# Altium footprint library TH Resistors.PcbLib: 5 footprints
Each footprint in its own frame and in the unit in brackets; x right, y up, seen from the top. Pads: shape width x height; smd on the part's side, far side on the other; paste and mask are expansions set on the pad; w line width, h text height; cw(c..) or ccw(c..) is an arc to the next point about the centre after c.
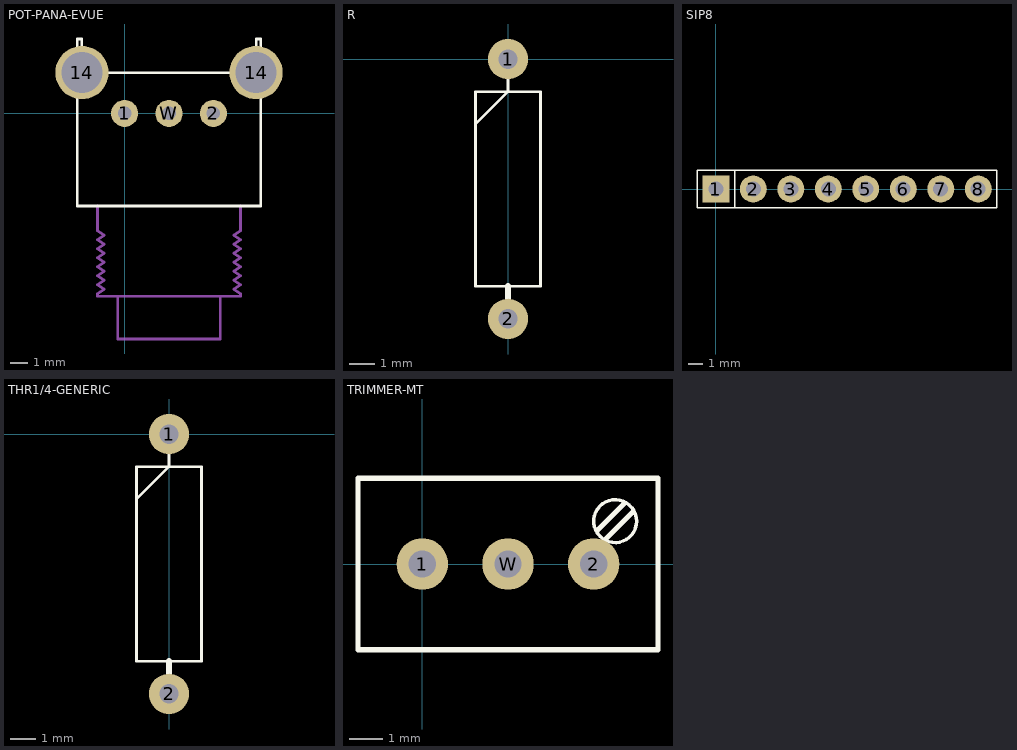
[diagram p0: the footprints below, top view; thin cyan lines are the x and y axes]

## POT-PANA-EVUE [mm]
pads (5):
  round 1.524 hole 0.762: 1(0,0) 2(5,0) W(2.5,0)
  round 3 hole 2.3: 14(-2.4,2.301) 14(7.4,2.301)
Top Overlay:
  lines w0.152: 2.46,-5.207 7.667,-5.207 7.667,2.286 7.667,4.191 7.54,4.191 7.413,4.191 7.413,2.286 2.46,2.286 ; 2.54,-5.207 -2.667,-5.207 -2.667,2.286 -2.667,4.191 -2.54,4.191 -2.413,4.191 -2.413,2.286 2.54,2.286
Mechanical 2:
  lines w0.152: -1.524,-5.207 -1.524,-6.604 -1.143,-6.858 -1.524,-7.112 -1.143,-7.366 -1.524,-7.62 -1.143,-7.874 -1.524,-8.128 -1.143,-8.382 -1.524,-8.636 -1.143,-8.89 -1.524,-9.144 -1.143,-9.398 -1.524,-9.652 -1.143,-9.906 -1.524,-10.16 -1.524,-10.287 2.54,-10.287 ; -0.381,-10.287 -0.381,-12.7 2.54,-12.7 ; 2.46,-12.7 5.381,-12.7 5.381,-10.287 ; 2.46,-10.287 6.524,-10.287 6.524,-10.16 6.143,-9.906 6.524,-9.652 6.143,-9.398 6.524,-9.144 6.143,-8.89 6.524,-8.636 6.143,-8.382 6.524,-8.128 6.143,-7.874 6.524,-7.62 6.143,-7.366 6.524,-7.112 6.143,-6.858 6.524,-6.604 6.524,-5.207
3D body: height 12, standoff -3.79, extent -2.437,-19.373 7.263,5.715

## R [mil]
pads (2):
  round 62 hole 30: 1(0,0) 2(0,-400)
Top Overlay:
  circle w4: c0,-400 r25
  circle w4: c0,0 r25
  circle w4: c0,0 r25
  circle w4: c0,-400 r25
  lines w4: -50,-100 0,-50 ; 0,0 0,-50 ; 0,-50 50,-50 50,-350 -50,-350 -50,-50 0,-50
  lines w10: 0,-400 0,-350

## SIP8 [mil]
pads (8):
  rect 72x72 hole 40: 1(0,0)
  round 72 hole 40: 2(100,0) 3(200,0) 4(300,0) 5(400,0) 6(500,0) 7(600,0) 8(700,0)
Top Overlay:
  lines w4: 50,-50 50,50 ; -50,-50 750,-50 750,50 -50,50 -50,-50

## THR1/4-GENERIC [mil]
pads (2):
  round 62 hole 30: 1(0,0) 2(0,-400)
Top Overlay:
  circle w4: c0,-400 r25
  circle w4: c0,0 r25
  circle w4: c0,0 r25
  circle w4: c0,-400 r25
  lines w4: -50,-100 0,-50 ; 0,0 0,-50 ; 0,-50 -50,-50 -50,-350 50,-350 50,-50 0,-50
  lines w10: 0,-400 0,-350

## TRIMMER-MT [mil]
pads (3):
  round 60 hole 32: 1(0,0) 2(200,0) W(100,0)
Top Overlay:
  circle w4: c225,50 r25
  lines w6: 205,40 235,70 ; 215,30 245,60 ; -75,-100 100,-100 ; -75,-100 -75,0 ; -75,-100 100,-100 ; -75,-100 -75,0 ; -75,0 -75,100 100,100 275,100 275,0 275,-100 100,-100